# Altium integrated library ON Semi Signal Management Signal Switches.IntLib: 212 symbols (part 1 of 6)
Pins are listed as number, name and electrical type; pins without a type are passive.

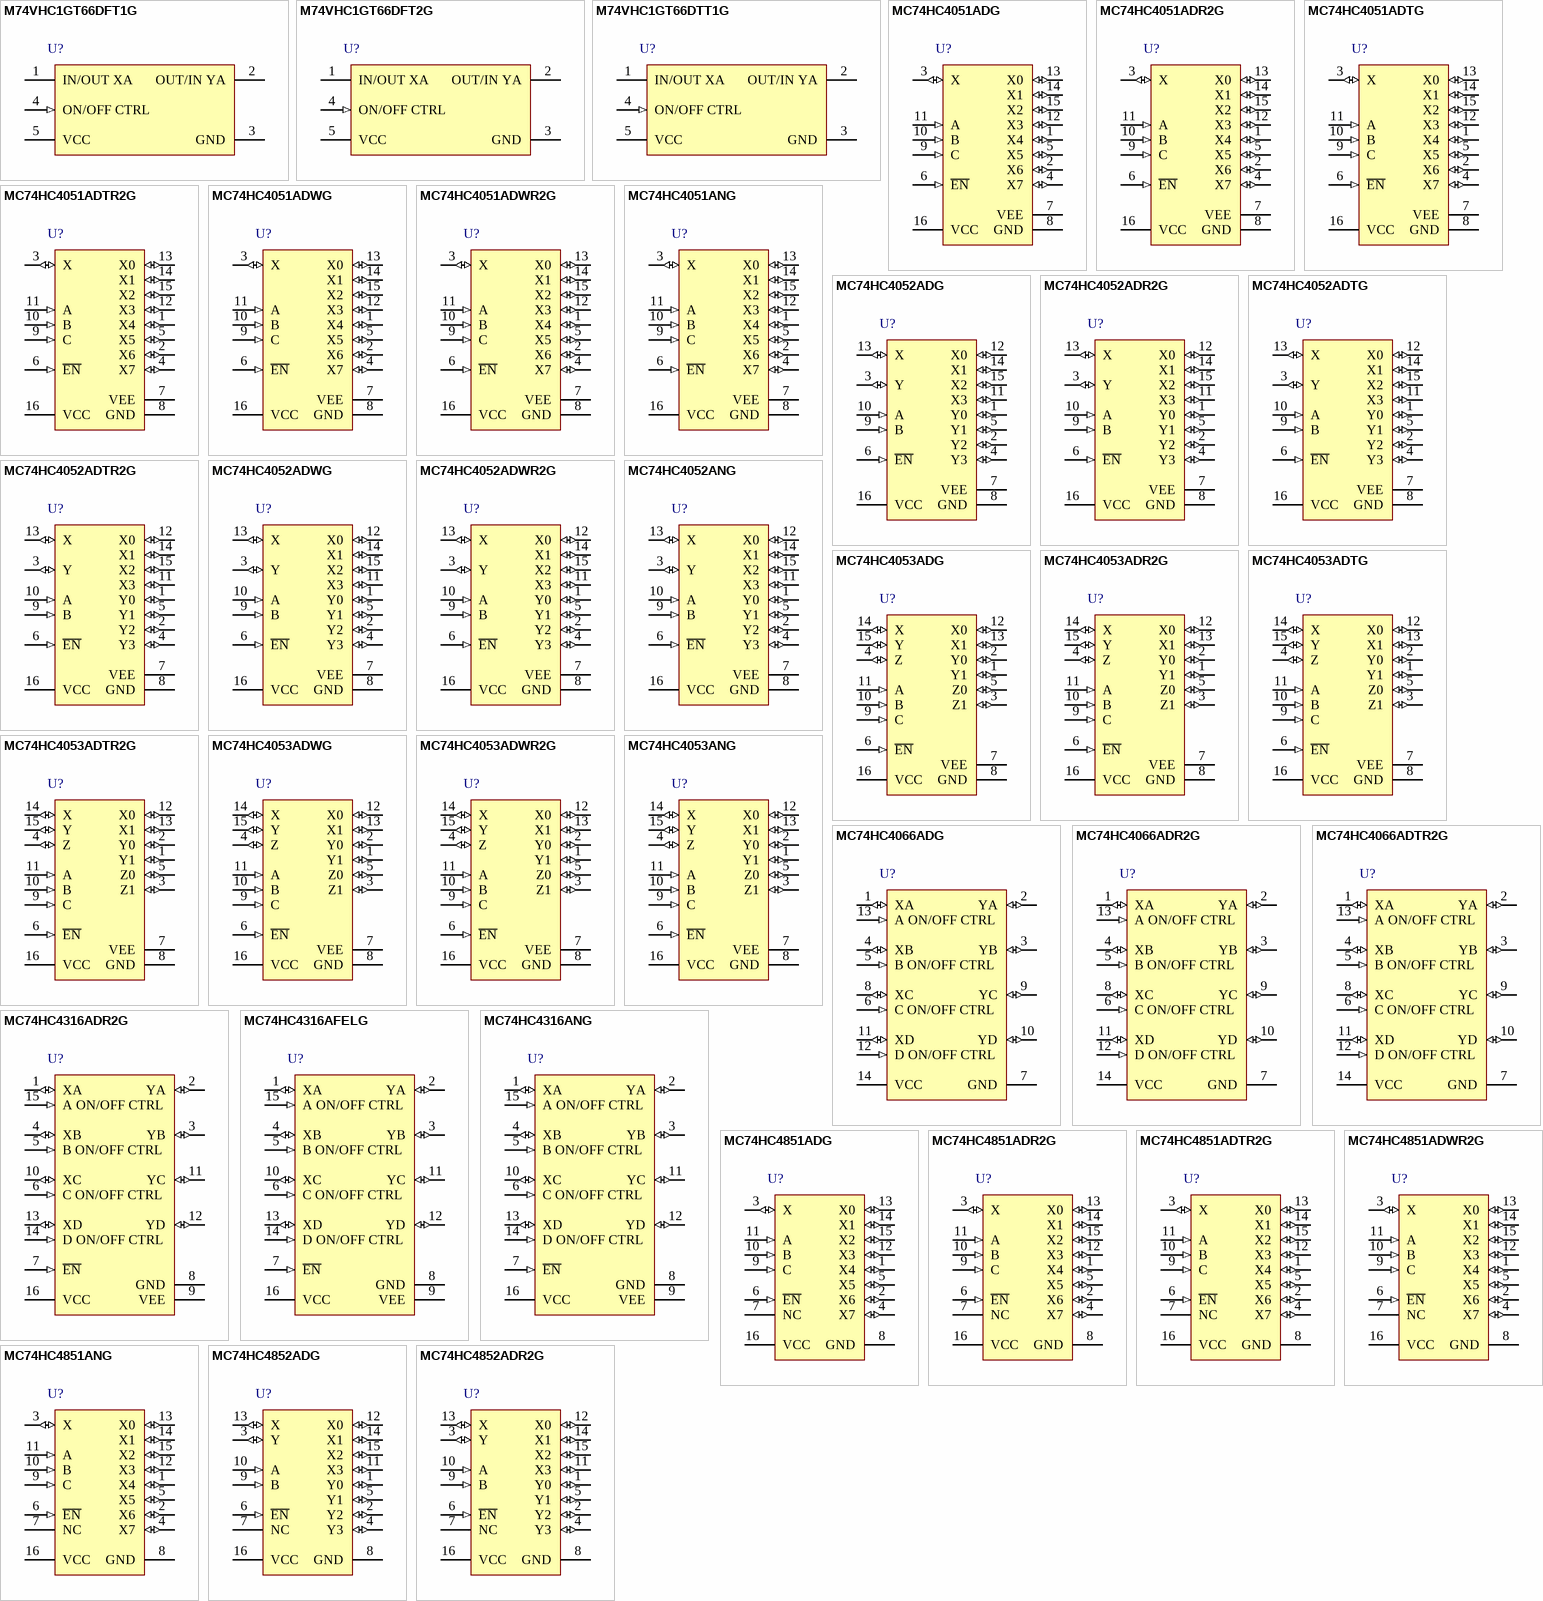
[diagram p0: symbols M74VHC1GT66DFT1G to MC74HC4852ADR2G]

## M74VHC1GT66DFT1G
designator U?
SPST (NO) Normally Open Analog Switch, 2 to 5.5 V, -55 to 125 degC, 5-Pin SC-88A, Pb-Free, Tape and Reel; Manufacturer: On Semiconductor; PartNumber: M74VHC1GT66DFT1G; Icc Max (uA): 40; VCC Max (V): 5.5; VCC Min (V): 2; DatasheetVersion: Rev. 15; PackageVersion: Rev. L, 01/2013; PackageReference: SC-88A-5-419A-02; PackageDescription: 5-Pin Small Outline Transistor, Body 2 x 1.25 mm, Pitch 0.65 mm; Supplier 1: Digi-Key; Supplier Part Number 1: M74VHC1GT66DFT1GOSTR-ND; Supplier 2: Digi-Key; Supplier Part Number 2: M74VHC1GT66DFT1GOSCT-ND; Supplier 3: Digi-Key; Supplier Part Number 3: M74VHC1GT66DFT1GOSDKR-ND; Supplier 4: Newark; Supplier Part Number 4: 61K1046; Supplier 5: Mouser; Supplier Part Number 5: 863-M74VHC1GT66DFT1G; Packing: Tape and Reel; RoHS: TRUE; Mounting Technology: Surface Mount; ComponentLink1Description: Manufacturer URL; ComponentLink1URL: http://www.onsemi.com/; ComponentLink2Description: Datasheet; ComponentLink2URL: http://www.onsemi.com/pub_link/Collateral/MC74VHC1GT66-D.PDF; ComponentLink3Description: Package Specification; ComponentLink3URL: http://www.onsemi.cn/pub_link/Collateral/419A-02.PDF
footprint ONSC-SC-88A-5-419A-02_V (SOT23, 5-Leads, Body 2.2x1.35mm, Pitch 0.65mm)
pins: 1 IN/OUT XA, 2 OUT/IN YA, 3 GND (power), 4 ON/OFF CTRL (in), 5 VCC (power)

## M74VHC1GT66DFT2G
designator U?
SPST (NO) Normally Open Analog Switch, 2 to 5.5 V, -55 to 125 degC, 5-Pin SC-88A, Pb-Free, Tape and Reel; Manufacturer: On Semiconductor; PartNumber: M74VHC1GT66DFT2G; Icc Max (uA): 40; VCC Max (V): 5.5; VCC Min (V): 2; DatasheetVersion: Rev. 15; PackageVersion: Rev. L, 01/2013; PackageReference: SC-88A-5-419A-02; PackageDescription: 5-Pin Small Outline Transistor, Body 2 x 1.25 mm, Pitch 0.65 mm; Supplier 1: Digi-Key; Supplier Part Number 1: M74VHC1GT66DFT2G-ND; Supplier 2: Mouser; Supplier Part Number 2: 863-M74VHC1GT66DFT2G; Packing: Tape and Reel; RoHS: TRUE; Mounting Technology: Surface Mount; ComponentLink1Description: Manufacturer URL; ComponentLink1URL: http://www.onsemi.com/; ComponentLink2Description: Datasheet; ComponentLink2URL: http://www.onsemi.com/pub_link/Collateral/MC74VHC1GT66-D.PDF; ComponentLink3Description: Package Specification; ComponentLink3URL: http://www.onsemi.cn/pub_link/Collateral/419A-02.PDF
footprint ONSC-SC-88A-5-419A-02_V (SOT23, 5-Leads, Body 2.2x1.35mm, Pitch 0.65mm)
pins: 1 IN/OUT XA, 2 OUT/IN YA, 3 GND (power), 4 ON/OFF CTRL (in), 5 VCC (power)

## M74VHC1GT66DTT1G
designator U?
SPST (NO) Normally Open Analog Switch, 2 to 5.5 V, -55 to 125 degC, 5-Pin TSOP, Pb-Free, Tape and Reel; Manufacturer: On Semiconductor; PartNumber: M74VHC1GT66DTT1G; Icc Max (uA): 40; VCC Max (V): 5.5; VCC Min (V): 2; DatasheetVersion: Rev. 15; PackageVersion: Rev. K, 04/2013; PackageReference: TSOP-5-483-02; PackageDescription: 5-Pin Small Outline Package, Body 3 x 1.5 mm, Pitch 0.95 mm; Supplier 1: Digi-Key; Supplier Part Number 1: M74VHC1GT66DTT1GOSTR-ND; Supplier 2: Digi-Key; Supplier Part Number 2: M74VHC1GT66DTT1GOSCT-ND; Supplier 3: Digi-Key; Supplier Part Number 3: M74VHC1GT66DTT1GOSDKR-ND; Supplier 4: Newark; Supplier Part Number 4: 04R7837; Supplier 5: Mouser; Supplier Part Number 5: 863-M74VHC1GT66DTT1G; Packing: Tape and Reel; RoHS: TRUE; Mounting Technology: Surface Mount; ComponentLink1Description: Manufacturer URL; ComponentLink1URL: http://www.onsemi.com/; ComponentLink2Description: Datasheet; ComponentLink2URL: http://www.onsemi.com/pub_link/Collateral/MC74VHC1GT66-D.PDF; ComponentLink3Description: Package Specification; ComponentLink3URL: http://www.onsemi.com/pub_link/Collateral/483.PDF
footprint ONSC-TSOP-5-483-02_V (SOP, 5-Leads, Body 3x1.5mm, Pitch 0.95mm)
pins: 1 IN/OUT XA, 2 OUT/IN YA, 3 GND (power), 4 ON/OFF CTRL (in), 5 VCC (power)

## MC74HC4051ADG
designator U?
Analog Multiplexer / Demultiplexer, High-Performance Silicon-Gate CMOS, 2 to 12 V, -55 to 125 degC, 16-Pin SOIC, Pb-Free, Tube; Manufacturer: On Semiconductor; PartNumber: MC74HC4051ADG; Icc Max (uA): 80; VCC Max (V): 12; VCC Min (V): 2; DatasheetVersion: Rev. 6; PackageVersion: Rev. K, 12/2006; PackageReference: SOIC-16-751B-05; PackageDescription: 16-Pin Small Outline Integrated Circuit, Body 9.9 x 3.9 mm, Pitch 1.27 mm; Supplier 1: Digi-Key; Supplier Part Number 1: MC74HC4051ADGOS-ND; Supplier 2: Farnell; Supplier Part Number 2: 1209365; Supplier 3: Newark; Supplier Part Number 3: 26K4231; Supplier 4: Mouser; Supplier Part Number 4: 863-MC74HC4051ADG; Packing: Tube; RoHS: TRUE; Mounting Technology: Surface Mount; ComponentLink1Description: Manufacturer URL; ComponentLink1URL: http://www.onsemi.com/; ComponentLink2Description: Datasheet; ComponentLink2URL: http://www.onsemi.com/pub_link/Collateral/MC74HC4051A-D.PDF; ComponentLink3Description: Package Specification; ComponentLink3URL: http://www.onsemi.com/pub_link/Collateral/751B-05.PDF
footprint ONSC-SOIC-16-751B-05_V (SOIC, 16-Leads, Body 10x4mm, Pitch 1.27mm)
pins: 1 X4 (io), 2 X6 (io), 3 X (io), 4 X7 (io), 5 X5 (io), 6 ~{EN} (in), 7 VEE (power), 8 GND (power), 9 C (in), 10 B (in), 11 A (in), 12 X3 (io), 13 X0 (io), 14 X1 (io), 15 X2 (io), 16 VCC (power)

## MC74HC4051ADR2G
designator U?
Analog Multiplexer / Demultiplexer, High-Performance Silicon-Gate CMOS, 2 to 12 V, -55 to 125 degC, 16-Pin SOIC, Pb-Free, Tape and Reel; Manufacturer: On Semiconductor; PartNumber: MC74HC4051ADR2G; Icc Max (uA): 80; VCC Max (V): 12; VCC Min (V): 2; DatasheetVersion: Rev. 6; PackageVersion: Rev. K, 12/2006; PackageReference: SOIC-16-751B-05; PackageDescription: 16-Pin Small Outline Integrated Circuit, Body 9.9 x 3.9 mm, Pitch 1.27 mm; Supplier 1: Digi-Key; Supplier Part Number 1: MC74HC4051ADR2GOSTR-ND; Supplier 2: Digi-Key; Supplier Part Number 2: MC74HC4051ADR2GOSCT-ND; Supplier 3: Digi-Key; Supplier Part Number 3: MC74HC4051ADR2GOSDKR-ND; Supplier 4: Farnell; Supplier Part Number 4: 1266205; Supplier 5: Newark; Supplier Part Number 5: 84K8780; Supplier 6: Mouser; Supplier Part Number 6: 863-MC74HC4051ADR2G; Packing: Tape and Reel; RoHS: TRUE; Mounting Technology: Surface Mount; ComponentLink1Description: Manufacturer URL; ComponentLink1URL: http://www.onsemi.com/; ComponentLink2Description: Datasheet; ComponentLink2URL: http://www.onsemi.com/pub_link/Collateral/MC74HC4051A-D.PDF; ComponentLink3Description: Package Specification; ComponentLink3URL: http://www.onsemi.com/pub_link/Collateral/751B-05.PDF
footprint ONSC-SOIC-16-751B-05_V (SOIC, 16-Leads, Body 10x4mm, Pitch 1.27mm)
pins: 1 X4 (io), 2 X6 (io), 3 X (io), 4 X7 (io), 5 X5 (io), 6 ~{EN} (in), 7 VEE (power), 8 GND (power), 9 C (in), 10 B (in), 11 A (in), 12 X3 (io), 13 X0 (io), 14 X1 (io), 15 X2 (io), 16 VCC (power)

## MC74HC4051ADTG
designator U?
Analog Multiplexer / Demultiplexer, High-Performance Silicon-Gate CMOS, 2 to 12 V, -55 to 125 degC, 16-Pin TSSOP, Pb-Free, Tube; Manufacturer: On Semiconductor; PartNumber: MC74HC4051ADTG; Icc Max (uA): 80; VCC Max (V): 12; VCC Min (V): 2; DatasheetVersion: Rev. 6; PackageVersion: Rev. B, 10/2006; PackageReference: TSSOP-16-948F-01; PackageDescription: 16-Pin Small Outline Package, Body 5 x 4.4 mm, Pitch 0.65 mm; Supplier 1: Digi-Key; Supplier Part Number 1: MC74HC4051ADTGOS-ND; Supplier 2: Newark; Supplier Part Number 2: 42K0886; Supplier 3: Mouser; Supplier Part Number 3: 863-MC74HC4051ADTG; Packing: Tube; RoHS: TRUE; Mounting Technology: Surface Mount; ComponentLink1Description: Manufacturer URL; ComponentLink1URL: http://www.onsemi.com/; ComponentLink2Description: Datasheet; ComponentLink2URL: http://www.onsemi.com/pub_link/Collateral/MC74HC4051A-D.PDF; ComponentLink3Description: Package Specification; ComponentLink3URL: http://www.onsemi.com/pub_link/Collateral/948F-01.PDF
footprint ONSC-TSSOP-16-948F-01_V (SOP, 16-Leads, Body 5.1x4.5mm, Pitch 0.65mm)
pins: 1 X4 (io), 2 X6 (io), 3 X (io), 4 X7 (io), 5 X5 (io), 6 ~{EN} (in), 7 VEE (power), 8 GND (power), 9 C (in), 10 B (in), 11 A (in), 12 X3 (io), 13 X0 (io), 14 X1 (io), 15 X2 (io), 16 VCC (power)

## MC74HC4051ADTR2G
designator U?
Analog Multiplexer / Demultiplexer, High-Performance Silicon-Gate CMOS, 2 to 12 V, -55 to 125 degC, 16-Pin TSSOP, Pb-Free, Tape and Reel; Manufacturer: On Semiconductor; PartNumber: MC74HC4051ADTR2G; Icc Max (uA): 80; VCC Max (V): 12; VCC Min (V): 2; DatasheetVersion: Rev. 6; PackageVersion: Rev. B, 10/2006; PackageReference: TSSOP-16-948F-01; PackageDescription: 16-Pin Small Outline Package, Body 5 x 4.4 mm, Pitch 0.65 mm; Supplier 1: Digi-Key; Supplier Part Number 1: MC74HC4051ADTR2GOSTR-ND; Supplier 2: Digi-Key; Supplier Part Number 2: MC74HC4051ADTR2GOSCT-ND; Supplier 3: Digi-Key; Supplier Part Number 3: MC74HC4051ADTR2GOSDKR-ND; Supplier 4: Newark; Supplier Part Number 4: 42K0887; Supplier 5: Mouser; Supplier Part Number 5: 863-MC74HC4051ADTR2G; Packing: Tape and Reel; RoHS: TRUE; Mounting Technology: Surface Mount; ComponentLink1Description: Manufacturer URL; ComponentLink1URL: http://www.onsemi.com/; ComponentLink2Description: Datasheet; ComponentLink2URL: http://www.onsemi.com/pub_link/Collateral/MC74HC4051A-D.PDF; ComponentLink3Description: Package Specification; ComponentLink3URL: http://www.onsemi.com/pub_link/Collateral/948F-01.PDF
footprint ONSC-TSSOP-16-948F-01_V (SOP, 16-Leads, Body 5.1x4.5mm, Pitch 0.65mm)
pins: 1 X4 (io), 2 X6 (io), 3 X (io), 4 X7 (io), 5 X5 (io), 6 ~{EN} (in), 7 VEE (power), 8 GND (power), 9 C (in), 10 B (in), 11 A (in), 12 X3 (io), 13 X0 (io), 14 X1 (io), 15 X2 (io), 16 VCC (power)

## MC74HC4051ADWG
designator U?
Analog Multiplexer / Demultiplexer, High-Performance Silicon-Gate CMOS, 2 to 12 V, -55 to 125 degC, 16-Pin SOIC, Pb-Free, Tube; Manufacturer: On Semiconductor; PartNumber: MC74HC4051ADWG; Icc Max (uA): 80; VCC Max (V): 12; VCC Min (V): 2; DatasheetVersion: Rev. 6; PackageVersion: Rev. D, 02/2013; PackageReference: SOIC-16-751G-03; PackageDescription: 16-Pin Small Outline Integrated Circuit, Body 10.3 x 7.5 mm, Pitch 1.27 mm; Supplier 1: Digi-Key; Supplier Part Number 1: MC74HC4051ADWGOS-ND; Supplier 2: Farnell; Supplier Part Number 2: 1705882; Supplier 3: Newark; Supplier Part Number 3: 42K0888; Supplier 4: Mouser; Supplier Part Number 4: 863-MC74HC4051ADWG; Packing: Tube; RoHS: TRUE; Mounting Technology: Surface Mount; ComponentLink1Description: Manufacturer URL; ComponentLink1URL: http://www.onsemi.com/; ComponentLink2Description: Datasheet; ComponentLink2URL: http://www.onsemi.com/pub_link/Collateral/MC74HC4051A-D.PDF; ComponentLink3Description: Package Specification; ComponentLink3URL: http://www.onsemi.com/pub_link/Collateral/751G-03.PDF
footprint ONSC-SOIC-16-751G-03_V (SOIC, 16-Leads, Body 10.45x7.6mm, Pitch 1.27mm)
pins: 1 X4 (io), 2 X6 (io), 3 X (io), 4 X7 (io), 5 X5 (io), 6 ~{EN} (in), 7 VEE (power), 8 GND (power), 9 C (in), 10 B (in), 11 A (in), 12 X3 (io), 13 X0 (io), 14 X1 (io), 15 X2 (io), 16 VCC (power)

## MC74HC4051ADWR2G
designator U?
Analog Multiplexer / Demultiplexer, High-Performance Silicon-Gate CMOS, 2 to 12 V, -55 to 125 degC, 16-Pin SOIC, Pb-Free, Tape and Reel; Manufacturer: On Semiconductor; PartNumber: MC74HC4051ADWR2G; Icc Max (uA): 80; VCC Max (V): 12; VCC Min (V): 2; DatasheetVersion: Rev. 6; PackageVersion: Rev. D, 02/2013; PackageReference: SOIC-16-751G-03; PackageDescription: 16-Pin Small Outline Integrated Circuit, Body 10.3 x 7.5 mm, Pitch 1.27 mm; Supplier 1: Digi-Key; Supplier Part Number 1: MC74HC4051ADWR2GOSTR-ND; Supplier 2: Digi-Key; Supplier Part Number 2: MC74HC4051ADWR2GOSCT-ND; Supplier 3: Digi-Key; Supplier Part Number 3: MC74HC4051ADWR2GOSDKR-ND; Supplier 4: Newark; Supplier Part Number 4: 71J5617; Supplier 5: Mouser; Supplier Part Number 5: 863-MC74HC4051ADWR2G; Packing: Tape and Reel; RoHS: TRUE; Mounting Technology: Surface Mount; ComponentLink1Description: Manufacturer URL; ComponentLink1URL: http://www.onsemi.com/; ComponentLink2Description: Datasheet; ComponentLink2URL: http://www.onsemi.com/pub_link/Collateral/MC74HC4051A-D.PDF; ComponentLink3Description: Package Specification; ComponentLink3URL: http://www.onsemi.com/pub_link/Collateral/751G-03.PDF
footprint ONSC-SOIC-16-751G-03_V (SOIC, 16-Leads, Body 10.45x7.6mm, Pitch 1.27mm)
pins: 1 X4 (io), 2 X6 (io), 3 X (io), 4 X7 (io), 5 X5 (io), 6 ~{EN} (in), 7 VEE (power), 8 GND (power), 9 C (in), 10 B (in), 11 A (in), 12 X3 (io), 13 X0 (io), 14 X1 (io), 15 X2 (io), 16 VCC (power)

## MC74HC4051ANG
designator U?
Analog Multiplexer / Demultiplexer, High-Performance Silicon-Gate CMOS, 2 to 12 V, -55 to 125 degC, 16-Pin PDIP, Pb-Free, Tube; Manufacturer: On Semiconductor; PartNumber: MC74HC4051ANG; Icc Max (uA): 80; VCC Max (V): 12; VCC Min (V): 2; DatasheetVersion: Rev. 6; PackageVersion: Rev. T, 05/2004; PackageReference: PDIP-16-648-08_T; PackageDescription: 16-Pin Plastic Dual-In Line Package, Body 19.175 x 6.6 mm, Pitch 2.54 mm; Supplier 1: Digi-Key; Supplier Part Number 1: MC74HC4051ANGOS-ND; Supplier 2: Newark; Supplier Part Number 2: 88H4741; Supplier 3: Mouser; Supplier Part Number 3: 863-MC74HC4051ANG; Packing: Tube; RoHS: TRUE; Mounting Technology: Through Hole; ComponentLink1Description: Manufacturer URL; ComponentLink1URL: http://www.onsemi.com/; ComponentLink2Description: Datasheet; ComponentLink2URL: http://www.onsemi.com/pub_link/Collateral/MC74HC4051A-D.PDF; ComponentLink3Description: Package Specification; ComponentLink3URL: http://www.onsemi.com/pub_link/Collateral/MC14028B-D.PDF
footprint ONSC-PDIP-16-648-08_T (DIP, 16-Leads, Body 19.55x6.85mm, Pitch 2.54mm)
pins: 1 X4 (io), 2 X6 (io), 3 X (io), 4 X7 (io), 5 X5 (io), 6 ~{EN} (in), 7 VEE (power), 8 GND (power), 9 C (in), 10 B (in), 11 A (in), 12 X3 (io), 13 X0 (io), 14 X1 (io), 15 X2 (io), 16 VCC (power)

## MC74HC4052ADG
designator U?
Analog Multiplexer / Demultiplexer, High-Performance Silicon-Gate CMOS, 2 to 12 V, -55 to 125 degC, 16-Pin SOIC, Pb-Free, Tube; Manufacturer: On Semiconductor; PartNumber: MC74HC4052ADG; Icc Max (uA): 80; VCC Max (V): 12; VCC Min (V): 2; DatasheetVersion: Rev. 6; PackageVersion: Rev. K, 12/2006; PackageReference: SOIC-16-751B-05; PackageDescription: 16-Pin Small Outline Integrated Circuit, Body 9.9 x 3.9 mm, Pitch 1.27 mm; Supplier 1: Digi-Key; Supplier Part Number 1: MC74HC4052ADGOS-ND; Supplier 2: Farnell; Supplier Part Number 2: 9666974; Supplier 3: Newark; Supplier Part Number 3: 45J1326; Supplier 4: Mouser; Supplier Part Number 4: 863-MC74HC4052ADG; Packing: Tube; RoHS: TRUE; Mounting Technology: Surface Mount; ComponentLink1Description: Manufacturer URL; ComponentLink1URL: http://www.onsemi.com/; ComponentLink2Description: Datasheet; ComponentLink2URL: http://www.onsemi.com/pub_link/Collateral/MC74HC4051A-D.PDF; ComponentLink3Description: Package Specification; ComponentLink3URL: http://www.onsemi.com/pub_link/Collateral/751B-05.PDF
footprint ONSC-SOIC-16-751B-05_V (SOIC, 16-Leads, Body 10x4mm, Pitch 1.27mm)
pins: 1 Y0 (io), 2 Y2 (io), 3 Y (io), 4 Y3 (io), 5 Y1 (io), 6 ~{EN} (in), 7 VEE (power), 8 GND (power), 9 B (in), 10 A (in), 11 X3 (io), 12 X0 (io), 13 X (io), 14 X1 (io), 15 X2 (io), 16 VCC (power)

## MC74HC4052ADR2G
designator U?
Analog Multiplexer / Demultiplexer, High-Performance Silicon-Gate CMOS, 2 to 12 V, -55 to 125 degC, 16-Pin SOIC, Pb-Free, Tape and Reel; Manufacturer: On Semiconductor; PartNumber: MC74HC4052ADR2G; Icc Max (uA): 80; VCC Max (V): 12; VCC Min (V): 2; DatasheetVersion: Rev. 6; PackageVersion: Rev. K, 12/2006; PackageReference: SOIC-16-751B-05; PackageDescription: 16-Pin Small Outline Integrated Circuit, Body 9.9 x 3.9 mm, Pitch 1.27 mm; Supplier 1: Digi-Key; Supplier Part Number 1: MC74HC4052ADR2GOSTR-ND; Supplier 2: Digi-Key; Supplier Part Number 2: MC74HC4052ADR2GOSCT-ND; Supplier 3: Digi-Key; Supplier Part Number 3: MC74HC4052ADR2GOSDKR-ND; Supplier 4: Newark; Supplier Part Number 4: 45J1327; Supplier 5: Mouser; Supplier Part Number 5: 863-MC74HC4052ADR2G; Packing: Tape and Reel; RoHS: TRUE; Mounting Technology: Surface Mount; ComponentLink1Description: Manufacturer URL; ComponentLink1URL: http://www.onsemi.com/; ComponentLink2Description: Datasheet; ComponentLink2URL: http://www.onsemi.com/pub_link/Collateral/MC74HC4051A-D.PDF; ComponentLink3Description: Package Specification; ComponentLink3URL: http://www.onsemi.com/pub_link/Collateral/751B-05.PDF
footprint ONSC-SOIC-16-751B-05_V (SOIC, 16-Leads, Body 10x4mm, Pitch 1.27mm)
pins: 1 Y0 (io), 2 Y2 (io), 3 Y (io), 4 Y3 (io), 5 Y1 (io), 6 ~{EN} (in), 7 VEE (power), 8 GND (power), 9 B (in), 10 A (in), 11 X3 (io), 12 X0 (io), 13 X (io), 14 X1 (io), 15 X2 (io), 16 VCC (power)

## MC74HC4052ADTG
designator U?
Analog Multiplexer / Demultiplexer, High-Performance Silicon-Gate CMOS, 2 to 12 V, -55 to 125 degC, 16-Pin TSSOP, Pb-Free, Tube; Manufacturer: On Semiconductor; PartNumber: MC74HC4052ADTG; Icc Max (uA): 80; VCC Max (V): 12; VCC Min (V): 2; DatasheetVersion: Rev. 6; PackageVersion: Rev. B, 10/2006; PackageReference: TSSOP-16-948F-01; PackageDescription: 16-Pin Small Outline Package, Body 5 x 4.4 mm, Pitch 0.65 mm; Supplier 1: Digi-Key; Supplier Part Number 1: MC74HC4052ADTGOS-ND; Supplier 2: Farnell; Supplier Part Number 2: 1705883; Supplier 3: Newark; Supplier Part Number 3: 42K0889; Supplier 4: Mouser; Supplier Part Number 4: 863-MC74HC4052ADTG; Packing: Tube; RoHS: TRUE; Mounting Technology: Surface Mount; ComponentLink1Description: Manufacturer URL; ComponentLink1URL: http://www.onsemi.com/; ComponentLink2Description: Datasheet; ComponentLink2URL: http://www.onsemi.com/pub_link/Collateral/MC74HC4051A-D.PDF; ComponentLink3Description: Package Specification; ComponentLink3URL: http://www.onsemi.com/pub_link/Collateral/948F-01.PDF
footprint ONSC-TSSOP-16-948F-01_V (SOP, 16-Leads, Body 5.1x4.5mm, Pitch 0.65mm)
pins: 1 Y0 (io), 2 Y2 (io), 3 Y (io), 4 Y3 (io), 5 Y1 (io), 6 ~{EN} (in), 7 VEE (power), 8 GND (power), 9 B (in), 10 A (in), 11 X3 (io), 12 X0 (io), 13 X (io), 14 X1 (io), 15 X2 (io), 16 VCC (power)

## MC74HC4052ADTR2G
designator U?
Analog Multiplexer / Demultiplexer, High-Performance Silicon-Gate CMOS, 2 to 12 V, -55 to 125 degC, 16-Pin TSSOP, Pb-Free, Tape and Reel; Manufacturer: On Semiconductor; PartNumber: MC74HC4052ADTR2G; Icc Max (uA): 80; VCC Max (V): 12; VCC Min (V): 2; DatasheetVersion: Rev. 6; PackageVersion: Rev. B, 10/2006; PackageReference: TSSOP-16-948F-01; PackageDescription: 16-Pin Small Outline Package, Body 5 x 4.4 mm, Pitch 0.65 mm; Supplier 1: Digi-Key; Supplier Part Number 1: MC74HC4052ADTR2GOSTR-ND; Supplier 2: Digi-Key; Supplier Part Number 2: MC74HC4052ADTR2GOSCT-ND; Supplier 3: Digi-Key; Supplier Part Number 3: MC74HC4052ADTR2GOSDKR-ND; Supplier 4: Newark; Supplier Part Number 4: 42K0890; Supplier 5: Mouser; Supplier Part Number 5: 863-MC74HC4052ADTR2G; Packing: Tape and Reel; RoHS: TRUE; Mounting Technology: Surface Mount; ComponentLink1Description: Manufacturer URL; ComponentLink1URL: http://www.onsemi.com/; ComponentLink2Description: Datasheet; ComponentLink2URL: http://www.onsemi.com/pub_link/Collateral/MC74HC4051A-D.PDF; ComponentLink3Description: Package Specification; ComponentLink3URL: http://www.onsemi.com/pub_link/Collateral/948F-01.PDF
footprint ONSC-TSSOP-16-948F-01_V (SOP, 16-Leads, Body 5.1x4.5mm, Pitch 0.65mm)
pins: 1 Y0 (io), 2 Y2 (io), 3 Y (io), 4 Y3 (io), 5 Y1 (io), 6 ~{EN} (in), 7 VEE (power), 8 GND (power), 9 B (in), 10 A (in), 11 X3 (io), 12 X0 (io), 13 X (io), 14 X1 (io), 15 X2 (io), 16 VCC (power)

## MC74HC4052ADWG
designator U?
Analog Multiplexer / Demultiplexer, High-Performance Silicon-Gate CMOS, 2 to 12 V, -55 to 125 degC, 16-Pin SOIC, Pb-Free, Tube; Manufacturer: On Semiconductor; PartNumber: MC74HC4052ADWG; Icc Max (uA): 80; VCC Max (V): 12; VCC Min (V): 2; DatasheetVersion: Rev. 6; PackageVersion: Rev. D, 02/2013; PackageReference: SOIC-16-751G-03; PackageDescription: 16-Pin Small Outline Integrated Circuit, Body 10.3 x 7.5 mm, Pitch 1.27 mm; Supplier 1: Digi-Key; Supplier Part Number 1: MC74HC4052ADWGOS-ND; Supplier 2: Newark; Supplier Part Number 2: 26K4233; Supplier 3: Mouser; Supplier Part Number 3: 863-MC74HC4052ADWG; Packing: Tube; RoHS: TRUE; Mounting Technology: Surface Mount; ComponentLink1Description: Manufacturer URL; ComponentLink1URL: http://www.onsemi.com/; ComponentLink2Description: Datasheet; ComponentLink2URL: http://www.onsemi.com/pub_link/Collateral/MC74HC4051A-D.PDF; ComponentLink3Description: Package Specification; ComponentLink3URL: http://www.onsemi.com/pub_link/Collateral/751G-03.PDF
footprint ONSC-SOIC-16-751G-03_V (SOIC, 16-Leads, Body 10.45x7.6mm, Pitch 1.27mm)
pins: 1 Y0 (io), 2 Y2 (io), 3 Y (io), 4 Y3 (io), 5 Y1 (io), 6 ~{EN} (in), 7 VEE (power), 8 GND (power), 9 B (in), 10 A (in), 11 X3 (io), 12 X0 (io), 13 X (io), 14 X1 (io), 15 X2 (io), 16 VCC (power)

## MC74HC4052ADWR2G
designator U?
Analog Multiplexer / Demultiplexer, High-Performance Silicon-Gate CMOS, 2 to 12 V, -55 to 125 degC, 16-Pin SOIC, Pb-Free, Tape and Reel; Manufacturer: On Semiconductor; PartNumber: MC74HC4052ADWR2G; Icc Max (uA): 80; VCC Max (V): 12; VCC Min (V): 2; DatasheetVersion: Rev. 6; PackageVersion: Rev. D, 02/2013; PackageReference: SOIC-16-751G-03; PackageDescription: 16-Pin Small Outline Integrated Circuit, Body 10.3 x 7.5 mm, Pitch 1.27 mm; Supplier 1: Digi-Key; Supplier Part Number 1: MC74HC4052ADWR2GOSTR-ND; Supplier 2: Digi-Key; Supplier Part Number 2: MC74HC4052ADWR2GOSCT-ND; Supplier 3: Digi-Key; Supplier Part Number 3: MC74HC4052ADWR2GOSDKR-ND; Supplier 4: Newark; Supplier Part Number 4: 70K3157; Supplier 5: Mouser; Supplier Part Number 5: 863-MC74HC4052ADWR2G; Packing: Tape and Reel; RoHS: TRUE; Mounting Technology: Surface Mount; ComponentLink1Description: Manufacturer URL; ComponentLink1URL: http://www.onsemi.com/; ComponentLink2Description: Datasheet; ComponentLink2URL: http://www.onsemi.com/pub_link/Collateral/MC74HC4051A-D.PDF; ComponentLink3Description: Package Specification; ComponentLink3URL: http://www.onsemi.com/pub_link/Collateral/751G-03.PDF
footprint ONSC-SOIC-16-751G-03_V (SOIC, 16-Leads, Body 10.45x7.6mm, Pitch 1.27mm)
pins: 1 Y0 (io), 2 Y2 (io), 3 Y (io), 4 Y3 (io), 5 Y1 (io), 6 ~{EN} (in), 7 VEE (power), 8 GND (power), 9 B (in), 10 A (in), 11 X3 (io), 12 X0 (io), 13 X (io), 14 X1 (io), 15 X2 (io), 16 VCC (power)

## MC74HC4052ANG
designator U?
Analog Multiplexer / Demultiplexer, High-Performance Silicon-Gate CMOS, 2 to 12 V, -55 to 125 degC, 16-Pin PDIP, Pb-Free, Tube; Manufacturer: On Semiconductor; PartNumber: MC74HC4052ANG; Icc Max (uA): 80; VCC Max (V): 12; VCC Min (V): 2; DatasheetVersion: Rev. 6; PackageVersion: Rev. T, 05/2004; PackageReference: PDIP-16-648-08_T; PackageDescription: 16-Pin Plastic Dual-In Line Package, Body 19.175 x 6.6 mm, Pitch 2.54 mm; Supplier 1: Digi-Key; Supplier Part Number 1: MC74HC4052ANGOS-ND; Supplier 2: Newark; Supplier Part Number 2: 45J1328; Supplier 3: Mouser; Supplier Part Number 3: 863-MC74HC4052ANG; Packing: Tube; RoHS: TRUE; Mounting Technology: Through Hole; ComponentLink1Description: Manufacturer URL; ComponentLink1URL: http://www.onsemi.com/; ComponentLink2Description: Datasheet; ComponentLink2URL: http://www.onsemi.com/pub_link/Collateral/MC74HC4051A-D.PDF; ComponentLink3Description: Package Specification; ComponentLink3URL: http://www.onsemi.com/pub_link/Collateral/MC14028B-D.PDF
footprint ONSC-PDIP-16-648-08_T (DIP, 16-Leads, Body 19.55x6.85mm, Pitch 2.54mm)
pins: 1 Y0 (io), 2 Y2 (io), 3 Y (io), 4 Y3 (io), 5 Y1 (io), 6 ~{EN} (in), 7 VEE (power), 8 GND (power), 9 B (in), 10 A (in), 11 X3 (io), 12 X0 (io), 13 X (io), 14 X1 (io), 15 X2 (io), 16 VCC (power)

## MC74HC4053ADG
designator U?
Analog Multiplexer / Demultiplexer, High-Performance Silicon-Gate CMOS, 2 to 12 V, -55 to 125 degC, 16-Pin SOIC, Pb-Free, Tube; Manufacturer: On Semiconductor; PartNumber: MC74HC4053ADG; Icc Max (uA): 80; VCC Max (V): 12; VCC Min (V): 2; DatasheetVersion: Rev. 6; PackageVersion: Rev. K, 12/2006; PackageReference: SOIC-16-751B-05; PackageDescription: 16-Pin Small Outline Integrated Circuit, Body 9.9 x 3.9 mm, Pitch 1.27 mm; Supplier 1: Digi-Key; Supplier Part Number 1: MC74HC4053ADGOS-ND; Supplier 2: Farnell; Supplier Part Number 2: 9666982; Supplier 3: Newark; Supplier Part Number 3: 45J1329; Supplier 4: Mouser; Supplier Part Number 4: 863-MC74HC4053ADG; Packing: Tube; RoHS: TRUE; Mounting Technology: Surface Mount; ComponentLink1Description: Manufacturer URL; ComponentLink1URL: http://www.onsemi.com/; ComponentLink2Description: Datasheet; ComponentLink2URL: http://www.onsemi.com/pub_link/Collateral/MC74HC4051A-D.PDF; ComponentLink3Description: Package Specification; ComponentLink3URL: http://www.onsemi.com/pub_link/Collateral/751B-05.PDF
footprint ONSC-SOIC-16-751B-05_V (SOIC, 16-Leads, Body 10x4mm, Pitch 1.27mm)
pins: 1 Y1 (io), 2 Y0 (io), 3 Z1 (io), 4 Z (io), 5 Z0 (io), 6 ~{EN} (in), 7 VEE (power), 8 GND (power), 9 C (in), 10 B (in), 11 A (in), 12 X0 (io), 13 X1 (io), 14 X (io), 15 Y (io), 16 VCC (power)

## MC74HC4053ADR2G
designator U?
Analog Multiplexer / Demultiplexer, High-Performance Silicon-Gate CMOS, 2 to 12 V, -55 to 125 degC, 16-Pin SOIC, Pb-Free, Tape and Reel; Manufacturer: On Semiconductor; PartNumber: MC74HC4053ADR2G; Icc Max (uA): 80; VCC Max (V): 12; VCC Min (V): 2; DatasheetVersion: Rev. 6; PackageVersion: Rev. K, 12/2006; PackageReference: SOIC-16-751B-05; PackageDescription: 16-Pin Small Outline Integrated Circuit, Body 9.9 x 3.9 mm, Pitch 1.27 mm; Supplier 1: Digi-Key; Supplier Part Number 1: MC74HC4053ADR2GOSTR-ND; Supplier 2: Digi-Key; Supplier Part Number 2: MC74HC4053ADR2GOSCT-ND; Supplier 3: Digi-Key; Supplier Part Number 3: MC74HC4053ADR2GOSDKR-ND; Supplier 4: Newark; Supplier Part Number 4: 71J5618; Supplier 5: Mouser; Supplier Part Number 5: 863-MC74HC4053ADR2G; Packing: Tape and Reel; RoHS: TRUE; Mounting Technology: Surface Mount; ComponentLink1Description: Manufacturer URL; ComponentLink1URL: http://www.onsemi.com/; ComponentLink2Description: Datasheet; ComponentLink2URL: http://www.onsemi.com/pub_link/Collateral/MC74HC4051A-D.PDF; ComponentLink3Description: Package Specification; ComponentLink3URL: http://www.onsemi.com/pub_link/Collateral/751B-05.PDF
footprint ONSC-SOIC-16-751B-05_V (SOIC, 16-Leads, Body 10x4mm, Pitch 1.27mm)
pins: 1 Y1 (io), 2 Y0 (io), 3 Z1 (io), 4 Z (io), 5 Z0 (io), 6 ~{EN} (in), 7 VEE (power), 8 GND (power), 9 C (in), 10 B (in), 11 A (in), 12 X0 (io), 13 X1 (io), 14 X (io), 15 Y (io), 16 VCC (power)

## MC74HC4053ADTG
designator U?
Analog Multiplexer / Demultiplexer, High-Performance Silicon-Gate CMOS, 2 to 12 V, -55 to 125 degC, 16-Pin TSSOP, Pb-Free, Tube; Manufacturer: On Semiconductor; PartNumber: MC74HC4053ADTG; Icc Max (uA): 80; VCC Max (V): 12; VCC Min (V): 2; DatasheetVersion: Rev. 6; PackageVersion: Rev. B, 10/2006; PackageReference: TSSOP-16-948F-01; PackageDescription: 16-Pin Small Outline Package, Body 5 x 4.4 mm, Pitch 0.65 mm; Supplier 1: Digi-Key; Supplier Part Number 1: MC74HC4053ADTGOS-ND; Supplier 2: Farnell; Supplier Part Number 2: 1126243; Supplier 3: Newark; Supplier Part Number 3: 42K0891; Supplier 4: Mouser; Supplier Part Number 4: 863-MC74HC4053ADTG; Packing: Tube; RoHS: TRUE; Mounting Technology: Surface Mount; ComponentLink1Description: Manufacturer URL; ComponentLink1URL: http://www.onsemi.com/; ComponentLink2Description: Datasheet; ComponentLink2URL: http://www.onsemi.com/pub_link/Collateral/MC74HC4051A-D.PDF; ComponentLink3Description: Package Specification; ComponentLink3URL: http://www.onsemi.com/pub_link/Collateral/948F-01.PDF
footprint ONSC-TSSOP-16-948F-01_V (SOP, 16-Leads, Body 5.1x4.5mm, Pitch 0.65mm)
pins: 1 Y1 (io), 2 Y0 (io), 3 Z1 (io), 4 Z (io), 5 Z0 (io), 6 ~{EN} (in), 7 VEE (power), 8 GND (power), 9 C (in), 10 B (in), 11 A (in), 12 X0 (io), 13 X1 (io), 14 X (io), 15 Y (io), 16 VCC (power)

## MC74HC4053ADTR2G
designator U?
Analog Multiplexer / Demultiplexer, High-Performance Silicon-Gate CMOS, 2 to 12 V, -55 to 125 degC, 16-Pin TSSOP, Pb-Free, Tape and Reel; Manufacturer: On Semiconductor; PartNumber: MC74HC4053ADTR2G; Icc Max (uA): 80; VCC Max (V): 12; VCC Min (V): 2; DatasheetVersion: Rev. 6; PackageVersion: Rev. B, 10/2006; PackageReference: TSSOP-16-948F-01; PackageDescription: 16-Pin Small Outline Package, Body 5 x 4.4 mm, Pitch 0.65 mm; Supplier 1: Digi-Key; Supplier Part Number 1: MC74HC4053ADTR2GOSTR-ND; Supplier 2: Digi-Key; Supplier Part Number 2: MC74HC4053ADTR2GOSCT-ND; Supplier 3: Digi-Key; Supplier Part Number 3: MC74HC4053ADTR2GOSDKR-ND; Supplier 4: Newark; Supplier Part Number 4: 42K0892; Supplier 5: Mouser; Supplier Part Number 5: 863-MC74HC4053ADTR2G; Packing: Tape and Reel; RoHS: TRUE; Mounting Technology: Surface Mount; ComponentLink1Description: Manufacturer URL; ComponentLink1URL: http://www.onsemi.com/; ComponentLink2Description: Datasheet; ComponentLink2URL: http://www.onsemi.com/pub_link/Collateral/MC74HC4051A-D.PDF; ComponentLink3Description: Package Specification; ComponentLink3URL: http://www.onsemi.com/pub_link/Collateral/948F-01.PDF
footprint ONSC-TSSOP-16-948F-01_V (SOP, 16-Leads, Body 5.1x4.5mm, Pitch 0.65mm)
pins: 1 Y1 (io), 2 Y0 (io), 3 Z1 (io), 4 Z (io), 5 Z0 (io), 6 ~{EN} (in), 7 VEE (power), 8 GND (power), 9 C (in), 10 B (in), 11 A (in), 12 X0 (io), 13 X1 (io), 14 X (io), 15 Y (io), 16 VCC (power)

## MC74HC4053ADWG
designator U?
Analog Multiplexer / Demultiplexer, High-Performance Silicon-Gate CMOS, 2 to 12 V, -55 to 125 degC, 16-Pin SOIC, Pb-Free, Tube; Manufacturer: On Semiconductor; PartNumber: MC74HC4053ADWG; Icc Max (uA): 80; VCC Max (V): 12; VCC Min (V): 2; DatasheetVersion: Rev. 6; PackageVersion: Rev. D, 02/2013; PackageReference: SOIC-16-751G-03; PackageDescription: 16-Pin Small Outline Integrated Circuit, Body 10.3 x 7.5 mm, Pitch 1.27 mm; Supplier 1: Digi-Key; Supplier Part Number 1: MC74HC4053ADWGOS-ND; Supplier 2: Farnell; Supplier Part Number 2: 1541115; Supplier 3: Newark; Supplier Part Number 3: 26K4235; Supplier 4: Mouser; Supplier Part Number 4: 863-MC74HC4053ADWG; Packing: Tube; RoHS: TRUE; Mounting Technology: Surface Mount; ComponentLink1Description: Manufacturer URL; ComponentLink1URL: http://www.onsemi.com/; ComponentLink2Description: Datasheet; ComponentLink2URL: http://www.onsemi.com/pub_link/Collateral/MC74HC4051A-D.PDF; ComponentLink3Description: Package Specification; ComponentLink3URL: http://www.onsemi.com/pub_link/Collateral/751G-03.PDF
footprint ONSC-SOIC-16-751G-03_V (SOIC, 16-Leads, Body 10.45x7.6mm, Pitch 1.27mm)
pins: 1 Y1 (io), 2 Y0 (io), 3 Z1 (io), 4 Z (io), 5 Z0 (io), 6 ~{EN} (in), 7 VEE (power), 8 GND (power), 9 C (in), 10 B (in), 11 A (in), 12 X0 (io), 13 X1 (io), 14 X (io), 15 Y (io), 16 VCC (power)

## MC74HC4053ADWR2G
designator U?
Analog Multiplexer / Demultiplexer, High-Performance Silicon-Gate CMOS, 2 to 12 V, -55 to 125 degC, 16-Pin SOIC, Pb-Free, Tape and Reel; Manufacturer: On Semiconductor; PartNumber: MC74HC4053ADWR2G; Icc Max (uA): 80; VCC Max (V): 12; VCC Min (V): 2; DatasheetVersion: Rev. 6; PackageVersion: Rev. D, 02/2013; PackageReference: SOIC-16-751G-03; PackageDescription: 16-Pin Small Outline Integrated Circuit, Body 10.3 x 7.5 mm, Pitch 1.27 mm; Supplier 1: Digi-Key; Supplier Part Number 1: MC74HC4053ADWR2GOSTR-ND; Supplier 2: Digi-Key; Supplier Part Number 2: MC74HC4053ADWR2GOSCT-ND; Supplier 3: Digi-Key; Supplier Part Number 3: MC74HC4053ADWR2GOSDKR-ND; Supplier 4: Newark; Supplier Part Number 4: 71J5619; Supplier 5: Mouser; Supplier Part Number 5: 863-MC74HC4053ADWR2G; Packing: Tape and Reel; RoHS: TRUE; Mounting Technology: Surface Mount; ComponentLink1Description: Manufacturer URL; ComponentLink1URL: http://www.onsemi.com/; ComponentLink2Description: Datasheet; ComponentLink2URL: http://www.onsemi.com/pub_link/Collateral/MC74HC4051A-D.PDF; ComponentLink3Description: Package Specification; ComponentLink3URL: http://www.onsemi.com/pub_link/Collateral/751G-03.PDF
footprint ONSC-SOIC-16-751G-03_V (SOIC, 16-Leads, Body 10.45x7.6mm, Pitch 1.27mm)
pins: 1 Y1 (io), 2 Y0 (io), 3 Z1 (io), 4 Z (io), 5 Z0 (io), 6 ~{EN} (in), 7 VEE (power), 8 GND (power), 9 C (in), 10 B (in), 11 A (in), 12 X0 (io), 13 X1 (io), 14 X (io), 15 Y (io), 16 VCC (power)

## MC74HC4053ANG
designator U?
Analog Multiplexer / Demultiplexer, High-Performance Silicon-Gate CMOS, 2 to 12 V, -55 to 125 degC, 16-Pin PDIP, Pb-Free, Tube; Manufacturer: On Semiconductor; PartNumber: MC74HC4053ANG; Icc Max (uA): 80; VCC Max (V): 12; VCC Min (V): 2; DatasheetVersion: Rev. 6; PackageVersion: Rev. T, 05/2004; PackageReference: PDIP-16-648-08_T; PackageDescription: 16-Pin Plastic Dual-In Line Package, Body 19.175 x 6.6 mm, Pitch 2.54 mm; Supplier 1: Digi-Key; Supplier Part Number 1: MC74HC4053ANGOS-ND; Supplier 2: Farnell; Supplier Part Number 2: 9665978; Supplier 3: Newark; Supplier Part Number 3: 45J1330; Supplier 4: Mouser; Supplier Part Number 4: 863-MC74HC4053ANG; Packing: Tube; RoHS: TRUE; Mounting Technology: Through Hole; ComponentLink1Description: Manufacturer URL; ComponentLink1URL: http://www.onsemi.com/; ComponentLink2Description: Datasheet; ComponentLink2URL: http://www.onsemi.com/pub_link/Collateral/MC74HC4051A-D.PDF; ComponentLink3Description: Package Specification; ComponentLink3URL: http://www.onsemi.com/pub_link/Collateral/MC14028B-D.PDF
footprint ONSC-PDIP-16-648-08_T (DIP, 16-Leads, Body 19.55x6.85mm, Pitch 2.54mm)
pins: 1 Y1 (io), 2 Y0 (io), 3 Z1 (io), 4 Z (io), 5 Z0 (io), 6 ~{EN} (in), 7 VEE (power), 8 GND (power), 9 C (in), 10 B (in), 11 A (in), 12 X0 (io), 13 X1 (io), 14 X (io), 15 Y (io), 16 VCC (power)

## MC74HC4066ADG
designator U?
Quad Analog Switch / Multiplexer / Demultiplexer, High-Performance Silicon-Gate CMOS, 2 to 12 V, -55 to 125 degC, 14-Pin SOIC, Pb-Free, Tube; Manufacturer: On Semiconductor; PartNumber: MC74HC4066ADG; Icc Max (uA): 160; VCC Max (V): 12; VCC Min (V): 2; DatasheetVersion: Rev. 12; PackageVersion: Rev. K, 05/2011; PackageReference: SOIC-14-751A-03; PackageDescription: 14-Pin Small Outline Integrated Circuit, Body 8.65 x 3.9 mm, Pitch 1.27 mm; Supplier 1: Digi-Key; Supplier Part Number 1: MC74HC4066ADGOS-ND; Supplier 2: Farnell; Supplier Part Number 2: 9666990; Supplier 3: Newark; Supplier Part Number 3: 45J1332; Supplier 4: Mouser; Supplier Part Number 4: 863-MC74HC4066ADG; Packing: Tube; RoHS: TRUE; Mounting Technology: Surface Mount; ComponentLink1Description: Manufacturer URL; ComponentLink1URL: http://www.onsemi.com/; ComponentLink2Description: Datasheet; ComponentLink2URL: http://www.onsemi.com/pub_link/Collateral/MC74HC4066A-D.PDF; ComponentLink3Description: Package Specification; ComponentLink3URL: http://www.onsemi.com/pub_link/Collateral/751A-03.PDF
footprint ONSC-SOIC-14-751A-03_V (SOIC, 14-Leads, Body 8.75x4mm, Pitch 1.27mm)
pins: 1 XA (io), 2 YA (io), 3 YB (io), 4 XB (io), 5 B ON/OFF CTRL (in), 6 C ON/OFF CTRL (in), 7 GND (power), 8 XC (io), 9 YC (io), 10 YD (io), 11 XD (io), 12 D ON/OFF CTRL (in), 13 A ON/OFF CTRL (in), 14 VCC (power)

## MC74HC4066ADR2G
designator U?
Quad Analog Switch / Multiplexer / Demultiplexer, High-Performance Silicon-Gate CMOS, 2 to 12 V, -55 to 125 degC, 14-Pin SOIC, Pb-Free, Tape and Reel; Manufacturer: On Semiconductor; PartNumber: MC74HC4066ADR2G; Icc Max (uA): 160; VCC Max (V): 12; VCC Min (V): 2; DatasheetVersion: Rev. 12; PackageVersion: Rev. K, 05/2011; PackageReference: SOIC-14-751A-03; PackageDescription: 14-Pin Small Outline Integrated Circuit, Body 8.65 x 3.9 mm, Pitch 1.27 mm; Supplier 1: Digi-Key; Supplier Part Number 1: MC74HC4066ADR2GOSTR-ND; Supplier 2: Digi-Key; Supplier Part Number 2: MC74HC4066ADR2GOSCT-ND; Supplier 3: Digi-Key; Supplier Part Number 3: MC74HC4066ADR2GOSDKR-ND; Supplier 4: Farnell; Supplier Part Number 4: 1273200; Packing: Tape and Reel; RoHS: TRUE; Mounting Technology: Surface Mount; ComponentLink1Description: Manufacturer URL; ComponentLink1URL: http://www.onsemi.com/; ComponentLink2Description: Datasheet; ComponentLink2URL: http://www.onsemi.com/pub_link/Collateral/MC74HC4066A-D.PDF; ComponentLink3Description: Package Specification; ComponentLink3URL: http://www.onsemi.com/pub_link/Collateral/751A-03.PDF
footprint ONSC-SOIC-14-751A-03_V (SOIC, 14-Leads, Body 8.75x4mm, Pitch 1.27mm)
pins: 1 XA (io), 2 YA (io), 3 YB (io), 4 XB (io), 5 B ON/OFF CTRL (in), 6 C ON/OFF CTRL (in), 7 GND (power), 8 XC (io), 9 YC (io), 10 YD (io), 11 XD (io), 12 D ON/OFF CTRL (in), 13 A ON/OFF CTRL (in), 14 VCC (power)

## MC74HC4066ADTR2G
designator U?
Quad Analog Switch / Multiplexer / Demultiplexer, High-Performance Silicon-Gate CMOS, 2 to 12 V, -55 to 125 degC, 14-Pin TSSOP, Pb-Free, Tape and Reel; Manufacturer: On Semiconductor; PartNumber: MC74HC4066ADTR2G; Icc Max (uA): 160; VCC Max (V): 12; VCC Min (V): 2; DatasheetVersion: Rev. 12; PackageVersion: Rev. B, 10/2006; PackageReference: TSSOP-14-948G-01; PackageDescription: 14-Pin Small Outline Package, Body 5 x 4.4 mm, Pitch 0.65 mm; Supplier 1: Digi-Key; Supplier Part Number 1: MC74HC4066ADTR2GOSTR-ND; Supplier 2: Digi-Key; Supplier Part Number 2: MC74HC4066ADTR2GOSCT-ND; Supplier 3: Digi-Key; Supplier Part Number 3: MC74HC4066ADTR2GOSDKR-ND; Supplier 4: Newark; Supplier Part Number 4: 42K0895; Supplier 5: Mouser; Supplier Part Number 5: 863-MC74HC4066ADTR2G; Packing: Tape and Reel; RoHS: TRUE; Mounting Technology: Surface Mount; ComponentLink1Description: Manufacturer URL; ComponentLink1URL: http://www.onsemi.com/; ComponentLink2Description: Datasheet; ComponentLink2URL: http://www.onsemi.com/pub_link/Collateral/MC74HC4066A-D.PDF; ComponentLink3Description: Package Specification; ComponentLink3URL: http://www.onsemi.com/pub_link/Collateral/948G-01.PDF
footprint ONSC-TSSOP-14-948G-01_V (SOP, 14-Leads, Body 5.1x4.5mm, Pitch 0.65mm)
pins: 1 XA (io), 2 YA (io), 3 YB (io), 4 XB (io), 5 B ON/OFF CTRL (in), 6 C ON/OFF CTRL (in), 7 GND (power), 8 XC (io), 9 YC (io), 10 YD (io), 11 XD (io), 12 D ON/OFF CTRL (in), 13 A ON/OFF CTRL (in), 14 VCC (power)

## MC74HC4316ADR2G
designator U?
Quad Analog Switch / Multiplexer / Demultiplexer with Separate Analog and Digital Power Supplies, High-Performance Silicon-Gate CMOS, 2 to 6 V, -55 to 125 degC, 16-Pin SOIC, Pb-Free, Tape and Reel; Manufacturer: On Semiconductor; PartNumber: MC74HC4316ADR2G; Icc Max (uA): 160; VCC Max (V): 6; VCC Min (V): 2; DatasheetVersion: Rev. 8; PackageVersion: Rev. K, 12/2006; PackageReference: SOIC-16-751B-05; PackageDescription: 16-Pin Small Outline Integrated Circuit, Body 9.9 x 3.9 mm, Pitch 1.27 mm; Supplier 1: Digi-Key; Supplier Part Number 1: MC74HC4316ADR2GOSTR-ND; Supplier 2: Digi-Key; Supplier Part Number 2: MC74HC4316ADR2GOSCT-ND; Supplier 3: Digi-Key; Supplier Part Number 3: MC74HC4316ADR2GOSDKR-ND; Supplier 4: Newark; Supplier Part Number 4: 26K4238; Supplier 5: Mouser; Supplier Part Number 5: 863-MC74HC4316ADR2G; Packing: Tape and Reel; RoHS: TRUE; Mounting Technology: Surface Mount; ComponentLink1Description: Manufacturer URL; ComponentLink1URL: http://www.onsemi.com/; ComponentLink2Description: Datasheet; ComponentLink2URL: http://www.onsemi.com/pub_link/Collateral/MC74HC4316A-D.PDF; ComponentLink3Description: Package Specification; ComponentLink3URL: http://www.onsemi.com/pub_link/Collateral/751B-05.PDF
footprint ONSC-SOIC-16-751B-05_V (SOIC, 16-Leads, Body 10x4mm, Pitch 1.27mm)
pins: 1 XA (io), 2 YA (io), 3 YB (io), 4 XB (io), 5 B ON/OFF CTRL (in), 6 C ON/OFF CTRL (in), 7 ~{EN} (in), 8 GND (power), 9 VEE (power), 10 XC (io), 11 YC (io), 12 YD (io), 13 XD (io), 14 D ON/OFF CTRL (in), 15 A ON/OFF CTRL (in), 16 VCC (power)

## MC74HC4316AFELG
designator U?
Quad Analog Switch / Multiplexer / Demultiplexer with Separate Analog and Digital Power Supplies, High-Performance Silicon-Gate CMOS, 2 to 6 V, -55 to 125 degC, 16-Pin SOEIAJ, Pb-Free, Tape and Reel; Manufacturer: On Semiconductor; PartNumber: MC74HC4316AFELG; Icc Max (uA): 160; VCC Max (V): 6; VCC Min (V): 2; DatasheetVersion: Rev. 8; PackageVersion: Rev. A, 10/2005; PackageReference: SOEIAJ-16-966-01; PackageDescription: 16-Pin Small Outline Integrated Circuit, Body 10.2 x 5.275 mm, Pitch 1.27 mm; Supplier 1: Digi-Key; Supplier Part Number 1: MC74HC4316AFELGOSTR-ND; Supplier 2: Digi-Key; Supplier Part Number 2: MC74HC4316AFELGOSCT-ND; Supplier 3: Mouser; Supplier Part Number 3: 863-MC74HC4316AFELG; Packing: Tape and Reel; RoHS: TRUE; Mounting Technology: Surface Mount; ComponentLink1Description: Manufacturer URL; ComponentLink1URL: http://www.onsemi.com/; ComponentLink2Description: Datasheet; ComponentLink2URL: http://www.onsemi.com/pub_link/Collateral/MC74HC4316A-D.PDF; ComponentLink3Description: Package Specification; ComponentLink3URL: http://www.onsemi.cn/pub_link/Collateral/966-01.PDF
footprint ONSC-SOEIAJ-16-966-01_N (SOIC, 16-Leads, Body 10.5x5.45mm, Pitch 1.27mm, IPC Medium Density)
footprint ONSC-SOEIAJ-16-966-01_L (SOIC, 16-Leads, Body 10.5x5.45mm, Pitch 1.27mm, IPC High Density)
footprint ONSC-SOEIAJ-16-966-01_M (SOIC, 16-Leads, Body 10.5x5.45mm, Pitch 1.27mm, IPC Low Density)
pins: 1 XA (io), 2 YA (io), 3 YB (io), 4 XB (io), 5 B ON/OFF CTRL (in), 6 C ON/OFF CTRL (in), 7 ~{EN} (in), 8 GND (power), 9 VEE (power), 10 XC (io), 11 YC (io), 12 YD (io), 13 XD (io), 14 D ON/OFF CTRL (in), 15 A ON/OFF CTRL (in), 16 VCC (power)

## MC74HC4316ANG
designator U?
Quad Analog Switch / Multiplexer / Demultiplexer with Separate Analog and Digital Power Supplies, High-Performance Silicon-Gate CMOS, 2 to 6 V, -55 to 125 degC, 16-Pin PDIP, Pb-Free, Tube; Manufacturer: On Semiconductor; PartNumber: MC74HC4316ANG; Icc Max (uA): 160; VCC Max (V): 6; VCC Min (V): 2; DatasheetVersion: Rev. 8; PackageVersion: Rev. T, 05/2004; PackageReference: PDIP-16-648-08_T; PackageDescription: 16-Pin Plastic Dual-In Line Package, Body 19.175 x 6.6 mm, Pitch 2.54 mm; Supplier 1: Digi-Key; Supplier Part Number 1: MC74HC4316ANGOS-ND; Supplier 2: Newark; Supplier Part Number 2: 45J1335; Supplier 3: Mouser; Supplier Part Number 3: 863-MC74HC4316ANG; Packing: Tube; RoHS: TRUE; Mounting Technology: Through Hole; ComponentLink1Description: Manufacturer URL; ComponentLink1URL: http://www.onsemi.com/; ComponentLink2Description: Datasheet; ComponentLink2URL: http://www.onsemi.com/pub_link/Collateral/MC74HC4316A-D.PDF; ComponentLink3Description: Package Specification; ComponentLink3URL: http://www.onsemi.com/pub_link/Collateral/MC14028B-D.PDF
footprint ONSC-PDIP-16-648-08_T (DIP, 16-Leads, Body 19.55x6.85mm, Pitch 2.54mm)
pins: 1 XA (io), 2 YA (io), 3 YB (io), 4 XB (io), 5 B ON/OFF CTRL (in), 6 C ON/OFF CTRL (in), 7 ~{EN} (in), 8 GND (power), 9 VEE (power), 10 XC (io), 11 YC (io), 12 YD (io), 13 XD (io), 14 D ON/OFF CTRL (in), 15 A ON/OFF CTRL (in), 16 VCC (power)

## MC74HC4851ADG
designator U?
Analog Multiplexer / Demultiplexer with Injection Current Effect Control, Automotive Customized, 2 to 6 V, -55 to 125 degC, 16-Pin SOIC, Pb-Free, Tube; Manufacturer: On Semiconductor; PartNumber: MC74HC4851ADG; Icc Max (uA): 40; VCC Max (V): 6; VCC Min (V): 2; DatasheetVersion: Rev. 14; PackageVersion: Rev. K, 12/2006; PackageReference: SOIC-16-751B-05; PackageDescription: 16-Pin Small Outline Integrated Circuit, Body 9.9 x 3.9 mm, Pitch 1.27 mm; Supplier 1: Digi-Key; Supplier Part Number 1: MC74HC4851ADG-ND; Supplier 2: Newark; Supplier Part Number 2: 42K0898; Supplier 3: Mouser; Supplier Part Number 3: 863-MC74HC4851ADG; Packing: Tube; RoHS: TRUE; Mounting Technology: Surface Mount; ComponentLink1Description: Manufacturer URL; ComponentLink1URL: http://www.onsemi.com/; ComponentLink2Description: Datasheet; ComponentLink2URL: http://www.onsemi.com/pub_link/Collateral/MC74HC4851A-D.PDF; ComponentLink3Description: Package Specification; ComponentLink3URL: http://www.onsemi.com/pub_link/Collateral/751B-05.PDF
footprint ONSC-SOIC-16-751B-05_V (SOIC, 16-Leads, Body 10x4mm, Pitch 1.27mm)
pins: 1 X4 (io), 2 X6 (io), 3 X (io), 4 X7 (io), 5 X5 (io), 6 ~{EN} (in), 7 NC, 8 GND (power), 9 C (in), 10 B (in), 11 A (in), 12 X3 (io), 13 X0 (io), 14 X1 (io), 15 X2 (io), 16 VCC (power)

## MC74HC4851ADR2G
designator U?
Analog Multiplexer / Demultiplexer with Injection Current Effect Control, Automotive Customized, 2 to 6 V, -55 to 125 degC, 16-Pin SOIC, Pb-Free, Tape and Reel; Manufacturer: On Semiconductor; PartNumber: MC74HC4851ADR2G; Icc Max (uA): 40; VCC Max (V): 6; VCC Min (V): 2; DatasheetVersion: Rev. 14; PackageVersion: Rev. K, 12/2006; PackageReference: SOIC-16-751B-05; PackageDescription: 16-Pin Small Outline Integrated Circuit, Body 9.9 x 3.9 mm, Pitch 1.27 mm; Supplier 1: Digi-Key; Supplier Part Number 1: MC74HC4851ADR2GOSTR-ND; Supplier 2: Digi-Key; Supplier Part Number 2: MC74HC4851ADR2GOSCT-ND; Supplier 3: Digi-Key; Supplier Part Number 3: MC74HC4851ADR2GOSDKR-ND; Supplier 4: Newark; Supplier Part Number 4: 71J5620; Supplier 5: Mouser; Supplier Part Number 5: 863-MC74HC4851ADR2G; Packing: Tape and Reel; RoHS: TRUE; Mounting Technology: Surface Mount; ComponentLink1Description: Manufacturer URL; ComponentLink1URL: http://www.onsemi.com/; ComponentLink2Description: Datasheet; ComponentLink2URL: http://www.onsemi.com/pub_link/Collateral/MC74HC4851A-D.PDF; ComponentLink3Description: Package Specification; ComponentLink3URL: http://www.onsemi.com/pub_link/Collateral/751B-05.PDF
footprint ONSC-SOIC-16-751B-05_V (SOIC, 16-Leads, Body 10x4mm, Pitch 1.27mm)
pins: 1 X4 (io), 2 X6 (io), 3 X (io), 4 X7 (io), 5 X5 (io), 6 ~{EN} (in), 7 NC, 8 GND (power), 9 C (in), 10 B (in), 11 A (in), 12 X3 (io), 13 X0 (io), 14 X1 (io), 15 X2 (io), 16 VCC (power)

## MC74HC4851ADTR2G
designator U?
Analog Multiplexer / Demultiplexer with Injection Current Effect Control, Automotive Customized, 2 to 6 V, -55 to 125 degC, 16-Pin TSSOP, Pb-Free, Tape and Reel; Manufacturer: On Semiconductor; PartNumber: MC74HC4851ADTR2G; Icc Max (uA): 40; VCC Max (V): 6; VCC Min (V): 2; DatasheetVersion: Rev. 14; PackageVersion: Rev. B, 10/2006; PackageReference: TSSOP-16-948F-01; PackageDescription: 16-Pin Small Outline Package, Body 5 x 4.4 mm, Pitch 0.65 mm; Supplier 1: Digi-Key; Supplier Part Number 1: MC74HC4851ADTR2GOSTR-ND; Supplier 2: Digi-Key; Supplier Part Number 2: MC74HC4851ADTR2GOSCT-ND; Supplier 3: Digi-Key; Supplier Part Number 3: MC74HC4851ADTR2GOSDKR-ND; Supplier 4: Newark; Supplier Part Number 4: 42K0899; Supplier 5: Mouser; Supplier Part Number 5: 863-MC74HC4851ADTR2G; Packing: Tape and Reel; RoHS: TRUE; Mounting Technology: Surface Mount; ComponentLink1Description: Manufacturer URL; ComponentLink1URL: http://www.onsemi.com/; ComponentLink2Description: Datasheet; ComponentLink2URL: http://www.onsemi.com/pub_link/Collateral/MC74HC4851A-D.PDF; ComponentLink3Description: Package Specification; ComponentLink3URL: http://www.onsemi.com/pub_link/Collateral/948F-01.PDF
footprint ONSC-TSSOP-16-948F-01_V (SOP, 16-Leads, Body 5.1x4.5mm, Pitch 0.65mm)
pins: 1 X4 (io), 2 X6 (io), 3 X (io), 4 X7 (io), 5 X5 (io), 6 ~{EN} (in), 7 NC, 8 GND (power), 9 C (in), 10 B (in), 11 A (in), 12 X3 (io), 13 X0 (io), 14 X1 (io), 15 X2 (io), 16 VCC (power)

## MC74HC4851ADWR2G
designator U?
Analog Multiplexer / Demultiplexer with Injection Current Effect Control, Automotive Customized, 2 to 6 V, -55 to 125 degC, 16-Pin SOIC, Pb-Free, Tape and Reel; Manufacturer: On Semiconductor; PartNumber: MC74HC4851ADWR2G; Icc Max (uA): 40; VCC Max (V): 6; VCC Min (V): 2; DatasheetVersion: Rev. 14; PackageVersion: Rev. D, 02/2013; PackageReference: SOIC-16-751G-03; PackageDescription: 16-Pin Small Outline Integrated Circuit, Body 10.3 x 7.5 mm, Pitch 1.27 mm; Supplier 1: Digi-Key; Supplier Part Number 1: MC74HC4851ADWR2GOSTR-ND; Supplier 2: Digi-Key; Supplier Part Number 2: MC74HC4851ADWR2GOSCT-ND; Supplier 3: Mouser; Supplier Part Number 3: 863-MC74HC4851ADWR2G; Packing: Tape and Reel; RoHS: TRUE; Mounting Technology: Surface Mount; ComponentLink1Description: Manufacturer URL; ComponentLink1URL: http://www.onsemi.com/; ComponentLink2Description: Datasheet; ComponentLink2URL: http://www.onsemi.com/pub_link/Collateral/MC74HC4851A-D.PDF; ComponentLink3Description: Package Specification; ComponentLink3URL: http://www.onsemi.com/pub_link/Collateral/751G-03.PDF
footprint ONSC-SOIC-16-751G-03_V (SOIC, 16-Leads, Body 10.45x7.6mm, Pitch 1.27mm)
pins: 1 X4 (io), 2 X6 (io), 3 X (io), 4 X7 (io), 5 X5 (io), 6 ~{EN} (in), 7 NC, 8 GND (power), 9 C (in), 10 B (in), 11 A (in), 12 X3 (io), 13 X0 (io), 14 X1 (io), 15 X2 (io), 16 VCC (power)

## MC74HC4851ANG
designator U?
Analog Multiplexer / Demultiplexer with Injection Current Effect Control, Automotive Customized, 2 to 6 V, -55 to 125 degC, 16-Pin PDIP, Pb-Free, Tube; Manufacturer: On Semiconductor; PartNumber: MC74HC4851ANG; Icc Max (uA): 40; VCC Max (V): 6; VCC Min (V): 2; DatasheetVersion: Rev. 14; PackageVersion: Rev. T, 05/2004; PackageReference: PDIP-16-648-08_T; PackageDescription: 16-Pin Plastic Dual-In Line Package, Body 19.175 x 6.6 mm, Pitch 2.54 mm; Supplier 1: Digi-Key; Supplier Part Number 1: MC74HC4851ANG-ND; Supplier 2: Mouser; Supplier Part Number 2: 863-MC74HC4851ANG; Packing: Tube; RoHS: TRUE; Mounting Technology: Through Hole; ComponentLink1Description: Manufacturer URL; ComponentLink1URL: http://www.onsemi.com/; ComponentLink2Description: Datasheet; ComponentLink2URL: http://www.onsemi.com/pub_link/Collateral/MC74HC4851A-D.PDF; ComponentLink3Description: Package Specification; ComponentLink3URL: http://www.onsemi.com/pub_link/Collateral/MC14028B-D.PDF
footprint ONSC-PDIP-16-648-08_T (DIP, 16-Leads, Body 19.55x6.85mm, Pitch 2.54mm)
pins: 1 X4 (io), 2 X6 (io), 3 X (io), 4 X7 (io), 5 X5 (io), 6 ~{EN} (in), 7 NC, 8 GND (power), 9 C (in), 10 B (in), 11 A (in), 12 X3 (io), 13 X0 (io), 14 X1 (io), 15 X2 (io), 16 VCC (power)